# Altium schematic symbol library holes.SCHLIB: 10 symbols
Pins are listed as number, name and electrical type; pins without a type are passive.

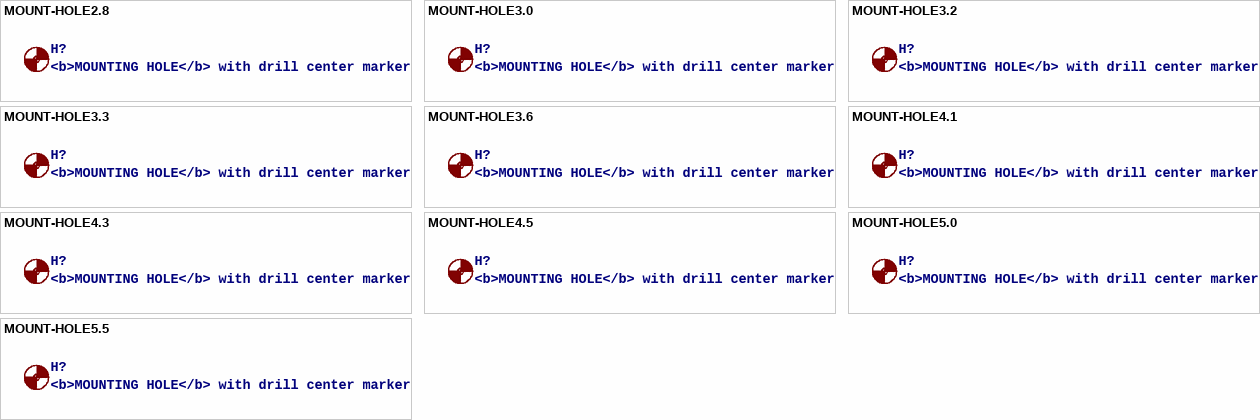
[diagram p0: symbols MOUNT-HOLE2.8 to MOUNT-HOLE5.5]

## MOUNT-HOLE2.8
designator H?, comment <b>MOUNTING HOLE</b> with drill center marker
footprint 2,8

## MOUNT-HOLE3.0
designator H?, comment <b>MOUNTING HOLE</b> with drill center marker
footprint 3,0

## MOUNT-HOLE3.2
designator H?, comment <b>MOUNTING HOLE</b> with drill center marker
footprint 3,2

## MOUNT-HOLE3.3
designator H?, comment <b>MOUNTING HOLE</b> with drill center marker
footprint 3,3

## MOUNT-HOLE3.6
designator H?, comment <b>MOUNTING HOLE</b> with drill center marker
footprint 3,6

## MOUNT-HOLE4.1
designator H?, comment <b>MOUNTING HOLE</b> with drill center marker
footprint 4,1

## MOUNT-HOLE4.3
designator H?, comment <b>MOUNTING HOLE</b> with drill center marker
footprint 4,3

## MOUNT-HOLE4.5
designator H?, comment <b>MOUNTING HOLE</b> with drill center marker
footprint 4,5

## MOUNT-HOLE5.0
designator H?, comment <b>MOUNTING HOLE</b> with drill center marker
footprint 5,0

## MOUNT-HOLE5.5
designator H?, comment <b>MOUNTING HOLE</b> with drill center marker
footprint 5,5